# EAGLE library part LTC3106 (library habexpico8)
LTC Series
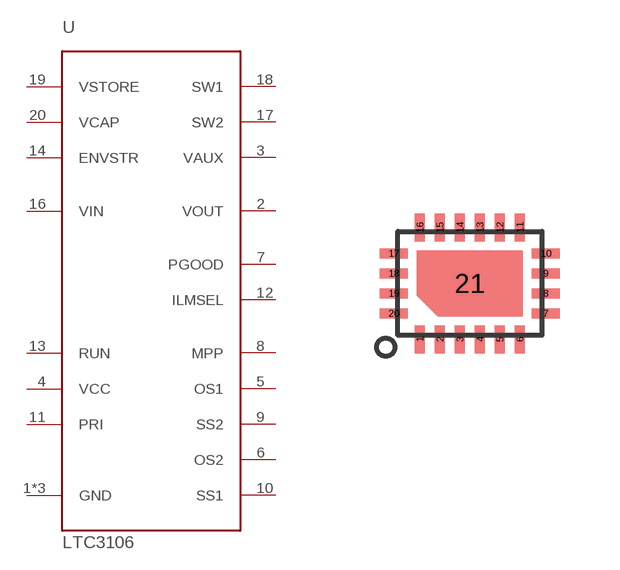
[diagram p3: symbol with the pads of UDC20QFN; footprint UDC20QFN]

Designator prefix U

## LTC3106  [UDC20QFN]
1  GND
2  VOUT
3  VAUX
4  VCC
5  OS1
6  OS2
7  PGOOD
8  MPP
9  SS2
10  SS1
11  PRI
12  ILMSEL
13  RUN
14  ENVSTR
15  GND
16  VIN
17  SW2
18  SW1
19  VSTORE
20  VCAP
21  GND

## Footprint UDC20QFN (pad centres in mm)
smd 0.25 x 0.7: 1 -1.25,-1.4; 2 -0.75,-1.4; 3 -0.25,-1.4; 4 0.25,-1.4; 5 0.75,-1.4; 6 1.25,-1.4; 11 1.25,1.4; 12 0.75,1.4; 13 0.25,1.4; 14 -0.25,1.4; 15 -0.75,1.4; 16 -1.25,1.4
smd 0.7 x 0.25: 7 1.9,-0.75; 8 1.9,-0.25; 9 1.9,0.25; 10 1.9,0.75; 17 -1.9,0.75; 18 -1.9,0.25; 19 -1.9,-0.25; 20 -1.9,-0.75
smd 1.2 x 0.7: 21 0,0